# Altium schematic symbol library TT Electronics Rotary Pot.SchLib: 1 symbol
Pins are listed as number, name and electrical type; pins without a type are passive.

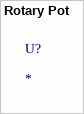
[diagram p0: symbol Rotary Pot]

## Rotary Pot
designator U?
Manufacturer: TT Electronics; Manufacturer ID: P120PK-Y25BR10K; Max Resistance: 10k; Tolerance: 20%